# Altium footprint library DW1000Breakout.PcbLib: 10 footprints
Each footprint in its own frame and in the unit in brackets; x right, y up, seen from the top. Pads: shape width x height; smd on the part's side, far side on the other; paste and mask are expansions set on the pad; w line width, h text height; cw(c..) or ccw(c..) is an arc to the next point about the centre after c.
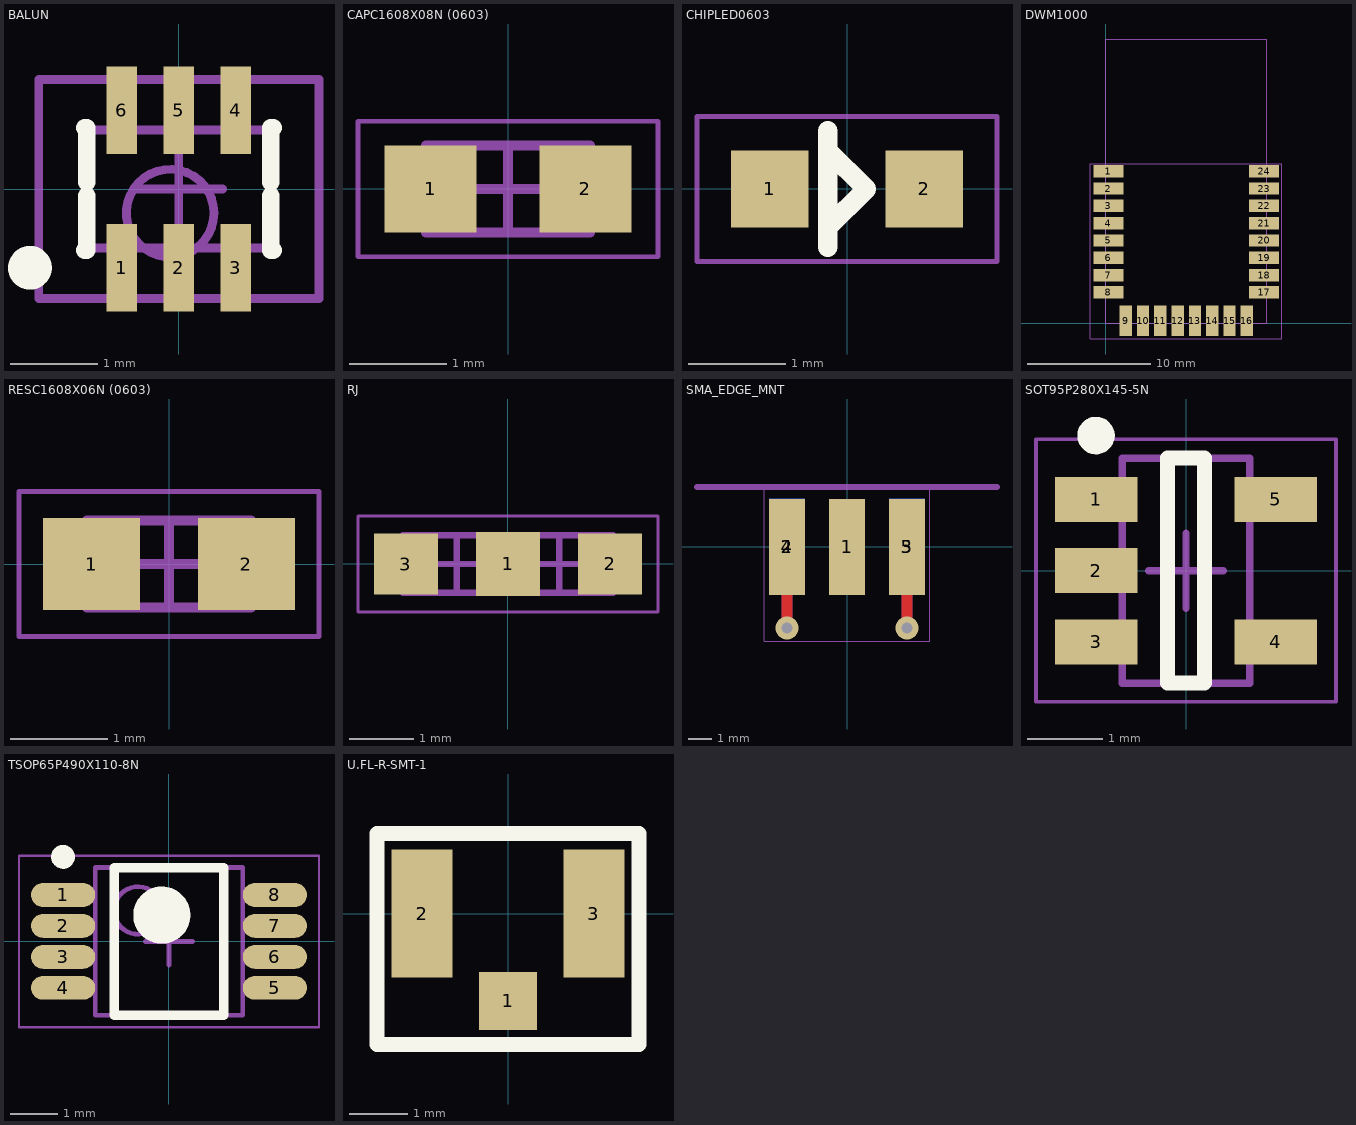
[diagram p0: the footprints below, top view; thin cyan lines are the x and y axes]

## BALUN [mm]
height 0.95
pads (6):
  rect 0.35x1 smd: 1(-0.65,-0.9) 2(0,-0.9) 3(0.65,-0.9) 4(0.65,0.9) 5(0,0.9) 6(-0.65,0.9)
Top Overlay:
  circle w0.25: c-1.7,-0.9 r0.125
  lines w0.2: -1.075,-0.7 -1.05,-0.7 -1.05,-0.075 ; -1.075,0.7 -1.05,0.7 -1.05,0.075 ; 1.05,-0.075 1.05,-0.7 1.075,-0.7 ; 1.05,0.075 1.05,0.7 1.075,0.7
Mechanical 13:
  circle w0.1: c-0.1,-0.275 r0.5
  lines w0.1: -1.05,-0.675 -1.05,0.675 1.05,0.675 1.05,-0.675 -1.05,-0.675
Mechanical 15:
  lines w0.1: -0.5,0 0.5,0 ; 0,-0.5 0,0.5 ; -1.6,-1.25 -1.6,1.25 1.6,1.25 1.6,-1.25 -1.6,-1.25
3D body: height 0.95, standoff 0.05, extent -1.05,-0.675 1.05,0.675

## CAPC1608X08N (0603) [mm] "Chip Capacitor, 2-Leads, Body 1.60x0.80mm, IPC Medium Density"
height 0.8
pads (2):
  rect 0.95x0.9 smd: 1(-0.8,0) 2(0.8,0)
Mechanical 13:
  lines w0.1: -0.85,-0.45 -0.85,0.45 0.85,0.45 0.85,-0.45 -0.85,-0.45
Mechanical 15:
  lines w0.05: -1.55,-0.7 -1.55,0.7 1.55,0.7 1.55,-0.7 -1.55,-0.7
  lines w0.1: -0.45,0 0.45,0 ; 0,-0.45 0,0.45
3D body: height 0.8, standoff 0, extent -0.5,-0.45 0.5,0.45
3D body: height 0.8, standoff 0, extent -0.85,-0.45 -0.5,0.45
3D body: height 0.8, standoff 0, extent 0.5,-0.45 0.85,0.45

## CHIPLED0603 [mm]
height 0.5
pads (2):
  rect 0.8x0.8 smd: 1(-0.8,0) 2(0.8,0)
Top Overlay:
  lines w0.203: -0.2,-0.6 -0.2,0.6 ; -0.2,-0.4 0.2,0 -0.2,0.4
Mechanical 15:
  lines w0.05: -1.55,-0.75 -1.55,0.75 1.55,0.75 1.55,-0.75 -1.55,-0.75
3D body "User Library-led_0603.step": height 0.6, standoff 0, extent -0.81,-0.4 0.81,0.4

## DWM1000 [mm]
pads (24):
  rect 2.45x1 smd: 1(0.205,12.3) 2(0.205,10.9) 3(0.205,9.5) 4(0.205,8.1) 5(0.205,6.7) 6(0.205,5.3) 7(0.205,3.9) 8(0.205,2.5) 17(12.795,2.5) 18(12.795,3.9) 19(12.795,5.3) 20(12.795,6.7) 21(12.795,8.1) 22(12.795,9.5) 23(12.795,10.9) 24(12.795,12.3)
  rect 1x2.45 smd: 9(1.6,0.205) 10(3,0.205) 11(4.4,0.205) 12(5.8,0.205) 13(7.2,0.205) 14(8.6,0.205) 15(10,0.205) 16(11.4,0.205)
Mechanical 13:
  lines w0.05: 0,0 0,23 13,23 13,0 0,0
Mechanical 15:
  lines w0.05: -1.27,-1.27 14.224,-1.27 14.224,12.925 -1.27,12.925 -1.27,-1.27
3D body "DWM1000 Module.STEP": height 2.9, standoff -0.01, extent 0,-0.013 13,22.987

## RESC1608X06N (0603) [mm] "Chip Resistor, 2-Leads, Body 1.60x0.80mm, IPC Medium Density"
height 0.55
pads (2):
  rect 1x0.95 smd: 1(-0.8,0) 2(0.8,0)
Mechanical 13:
  lines w0.1: -0.85,-0.45 -0.85,0.45 0.85,0.45 0.85,-0.45 -0.85,-0.45
Mechanical 15:
  lines w0.05: -1.55,-0.75 -1.55,0.75 1.55,0.75 1.55,-0.75 -1.55,-0.75
  lines w0.1: -0.45,0 0.45,0 ; 0,-0.45 0,0.45
3D body: height 0.55, standoff 0, extent -0.55,-0.45 0.55,0.45
3D body: height 0.55, standoff 0, extent -0.85,-0.45 -0.55,0.45
3D body: height 0.55, standoff 0, extent 0.55,-0.45 0.85,0.45

## RJ [mm] "0 Ohm Resistor Jumper"
pads (3):
  rect 1x1 smd: 1(0,0)
  rect 1x0.95 smd: 2(1.6,0) 3(-1.6,0)
Mechanical 13:
  lines w0.1: -1.65,-0.45 -1.65,0.45 0.05,0.45 0.05,-0.45 -1.65,-0.45 ; -0.05,-0.45 1.65,-0.45 1.65,0.45 -0.05,0.45 -0.05,-0.45
Mechanical 15:
  lines w0.05: -2.35,-0.75 -2.35,0.75 2.35,0.75 2.35,-0.75 -2.35,-0.75
  lines w0.1: -1.25,0 -0.35,0 ; -0.8,-0.45 -0.8,0.45 ; 0.35,0 1.25,0 ; 0.8,-0.45 0.8,0.45
3D body: height 0.55, standoff 0, extent 1.35,-0.45 1.65,0.45
3D body: height 0.55, standoff 0, extent -0.05,-0.45 0.25,0.45
3D body: height 0.55, standoff 0, extent 0.25,-0.45 1.35,0.45

## SMA_EDGE_MNT [mm]
pads (5):
  rect 1.52x4.06 smd: 1(0,0) 2(-2.54,0) 3(2.54,0)
  rect 1.52x4.06 smd far side: 4(-2.54,0) 5(2.54,0)
via -2.54,-3.429 diameter 0.965 hole 0.457
via 2.54,-3.429 diameter 0.965 hole 0.457
Top Layer:
  lines w0.457: -2.54,-3.429 -2.54,0 ; 2.54,-3.429 2.54,0
Bottom Layer:
  lines w0.457: -2.54,-3.429 -2.54,0 ; 2.54,-3.429 2.54,0
Mechanical 1:
  lines w0.254: -6.35,2.54 6.35,2.54
Mechanical 15:
  lines w0.05: -3.5,-4 -3.5,2.55 3.5,2.55 3.5,-4 -3.5,-4
3D body "User Library-142-0711-821.step": height 3.57, standoff -2.78, extent -3.175,-1.27 3.175,12.065

## SOT95P280X145-5N [mm] "SOT23, 5-Leads, Body 2.90x2.80mm, Pitch 0.95mm, IPC Medium Density"
height 1.45
pads (5):
  rect 1.1x0.6 smd: 1(-1.2,0.95) 2(-1.2,0) 3(-1.2,-0.95) 4(1.2,-0.95) 5(1.2,0.95)
Top Overlay:
  circle w0.25: c-1.2,1.8 r0.125
  lines w0.2: -0.25,-1.5 0.25,-1.5 0.25,1.5 -0.25,1.5 -0.25,-1.5
Mechanical 13:
  lines w0.1: -0.85,-1.5 -0.85,1.5 0.85,1.5 0.85,-1.5 -0.85,-1.5
Mechanical 15:
  lines w0.05: -2,-1.75 -2,1.75 2,1.75 2,-1.75 -2,-1.75
  lines w0.1: -0.5,0 0.5,0 ; 0,-0.5 0,0.5
3D body: height 1.45, standoff 0.05, extent -0.85,-1.5 0.85,1.5

## TSOP65P490X110-8N [mm] "TSOP, 8-Leads, Body 3.00x3.00mm, Pitch 0.65mm, IPC Medium Density"
height 1.1
pads (8):
  oval 1.35x0.5 smd: 1(-2.225,0.975) 2(-2.225,0.325) 3(-2.225,-0.325) 4(-2.225,-0.975) 5(2.225,-0.975) 6(2.225,-0.325) 7(2.225,0.325) 8(2.225,0.975)
Top Overlay:
  circle w0.25: c-2.225,1.775 r0.125
  circle w0.6: c-0.15,0.55 r0.3
  lines w0.2: -1.15,-1.55 -1.15,1.55 1.15,1.55 1.15,-1.55 -1.15,-1.55
Mechanical 13:
  circle w0.1: c-0.65,0.65 r0.5
  lines w0.1: -1.55,-1.55 -1.55,1.55 1.55,1.55 1.55,-1.55 -1.55,-1.55
Mechanical 15:
  lines w0.05: -3.15,-1.8 -3.15,1.8 3.15,1.8 3.15,-1.8 -3.15,-1.8
  lines w0.1: -0.5,0 0.5,0 ; 0,-0.5 0,0.5
3D body "TSOP65P490X110-8N.step": height 1.1, standoff 0, extent -2.45,-1.55 2.45,1.55

## U.FL-R-SMT-1 [mm] "U.FL-R-SMT-1"
height 1.25
pads (3):
  rect 1x1 smd: 1(0,-1.5)
  rect 1.05x2.2 smd: 2(-1.475,0) 3(1.475,0)
Top Overlay:
  lines w0.254: -2.25,-2.25 -2.25,1.375 2.25,1.375 2.25,-2.25 -2.25,-2.25
3D body "U.FL-R-SMT-1.stp": height 1.26, standoff 0.01, extent -1.5,-1.55 1.5,1.55